# Altium schematic symbol library FPGA_Automotibe_Radar_Lib.SchLib: 52 symbols
Pins are listed as number, name and electrical type; pins without a type are passive.

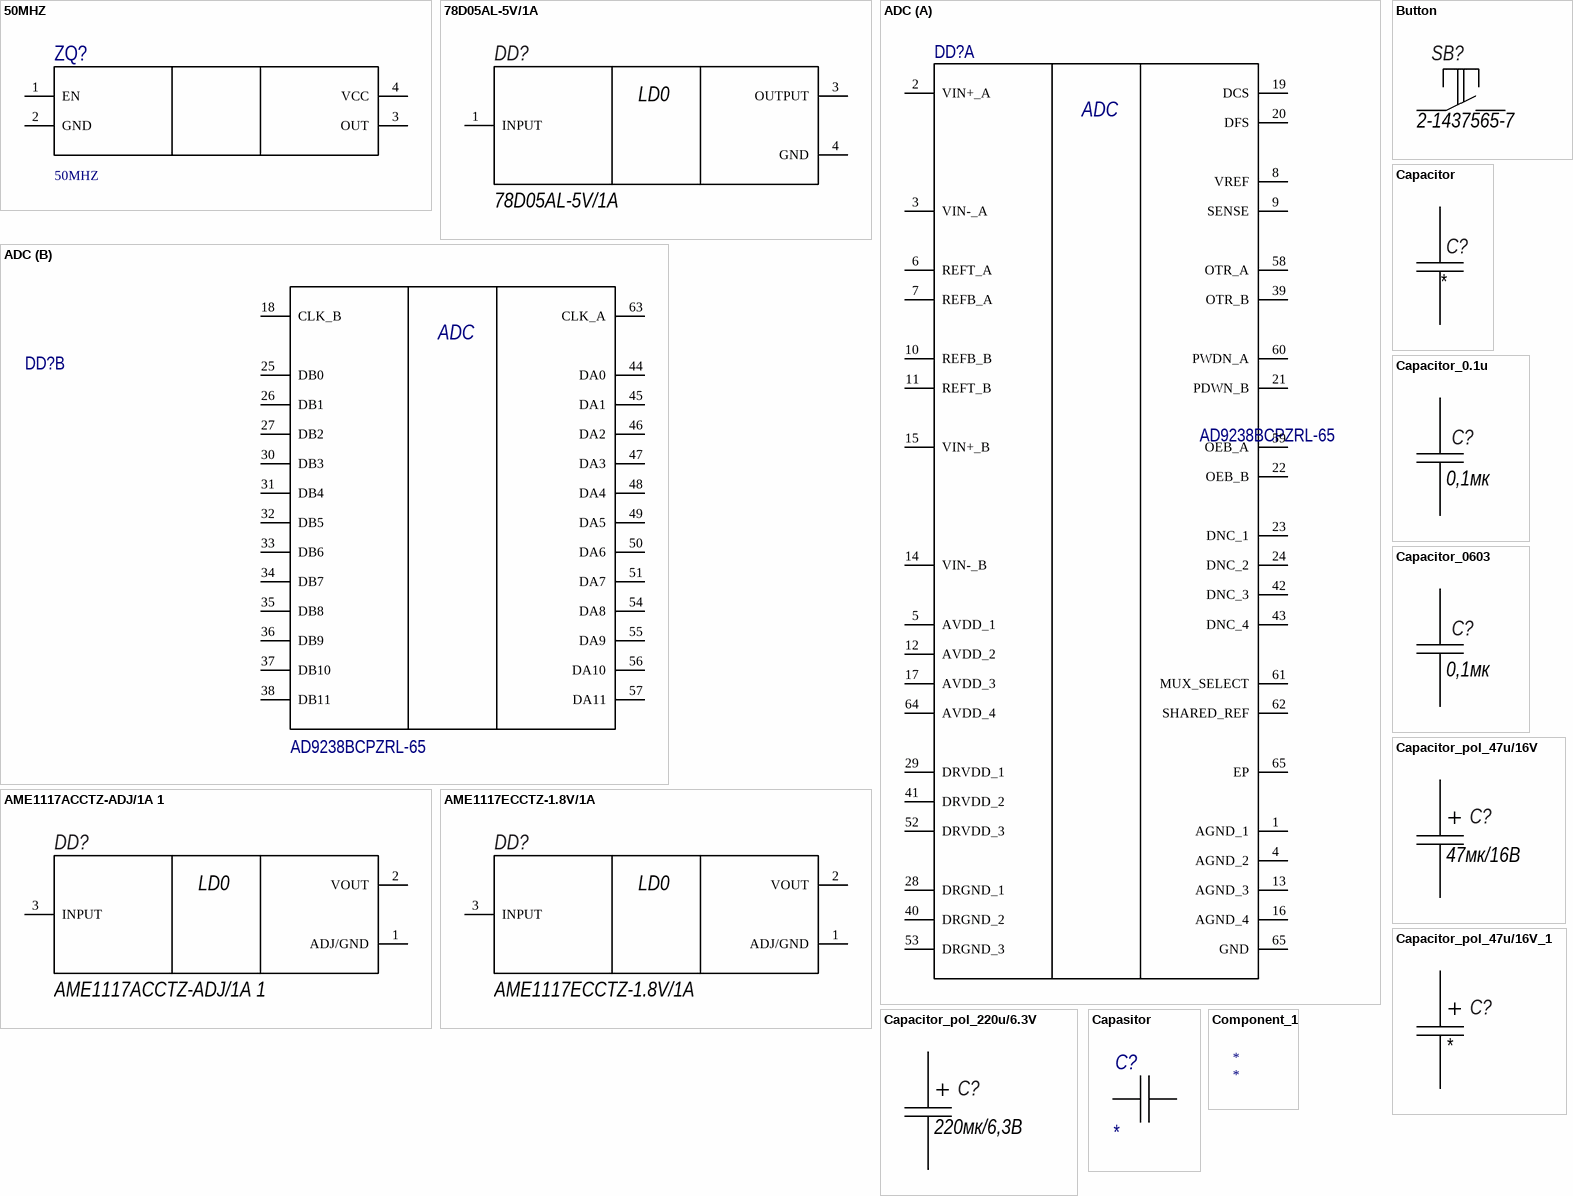
[diagram p0: symbols 50MHZ to Component_1]

## 50MHZ
designator ZQ?
pins: 1 EN, 2 GND, 3 OUT, 4 VCC

## 78D05AL-5V/1A
designator DD?
footprint BD750L5FPCE2
pins: 1 INPUT, 3 OUTPUT, 4 GND
1 alternate drawing of the same symbol
text: LD0

## ADC
designator DD?, comment AD9238BCPZRL-65
footprint QFN50P900X900X80-65N-D
part A pins: 1 AGND_1, 2 VIN+_A, 3 VIN-_A, 4 AGND_2, 5 AVDD_1, 6 REFT_A, 7 REFB_A, 8 VREF, 9 SENSE, 10 REFB_B, 11 REFT_B, 12 AVDD_2, 13 AGND_3, 14 VIN-_B, 15 VIN+_B, 16 AGND_4, 17 AVDD_3, 19 DCS, 20 DFS, 21 PDWN_B, 22 OEB_B, 23 DNC_1, 24 DNC_2, 28 DRGND_1, 29 DRVDD_1, 39 OTR_B, 40 DRGND_2, 41 DRVDD_2, 42 DNC_3, 43 DNC_4, 52 DRVDD_3, 53 DRGND_3, 58 OTR_A, 59 OEB_A, 60 PWDN_A, 61 MUX_SELECT, 62 SHARED_REF, 64 AVDD_4, 65 EP, 65 GND
part B pins: 18 CLK_B, 25 DB0, 26 DB1, 27 DB2, 30 DB3, 31 DB4, 32 DB5, 33 DB6, 34 DB7, 35 DB8, 36 DB9, 37 DB10, 38 DB11, 44 DA0, 45 DA1, 46 DA2, 47 DA3, 48 DA4, 49 DA5, 50 DA6, 51 DA7, 54 DA8, 55 DA9, 56 DA10, 57 DA11, 63 CLK_A

## AME1117ACCTZ-ADJ/1A 1
designator DD?
footprint SOT230P700X180-4N
pins: 1 ADJ/GND, 2 VOUT, 3 INPUT
1 alternate drawing of the same symbol
text: LD0

## AME1117ECCTZ-1.8V/1A
designator DD?
footprint SOT230P700X180-4N
pins: 1 ADJ/GND, 2 VOUT, 3 INPUT
1 alternate drawing of the same symbol
text: LD0

## Button
designator SB?, comment 2-1437565-7
ValueManufacturer: Te Connectivity; ValueType: Кнопка тактовая; Value: *; URL: *; Temp: *; Case: *; ValueManufacturerPartNumber: 2-1437565-7; ValueDescription: *
footprint ПТМ Tact
pins: 1, 2

## Capacitor
designator C?
ValueType: Конденсатор; Value: *; Tolerance: *; URL: *; Temp: *; Case: *; ValueManufacturer: *; ValueManufacturerPartNumber: *; ValueDescription: *; Dielectric: *; ESR: *; Voltage: *
footprint ECPU1C154MA5
pins: 1, 2

## Capacitor_0.1u
designator C?, comment 0,1мк
ValueType: Конденсатор; Value: 0,1мк; Tolerance: *; URL: *; Temp: *; Case: *; ValueManufacturer: *; ValueManufacturerPartNumber: *; ValueDescription: *; Dielectric: *; ESR: *; Voltage: *
footprint RESC1005X35N
pins: 1, 2

## Capacitor_0603
designator C?, comment 0,1мк
ValueType: Конденсатор; Value: 0,1мк; Tolerance: *; URL: *; Temp: *; Case: *; ValueManufacturer: *; ValueManufacturerPartNumber: *; ValueDescription: *; Dielectric: *; ESR: *; Voltage: *
footprint 0603
pins: 1, 2

## Capacitor_pol_47u/16V
designator C?, comment 47мк/16B
ValueType: Конденсатор; Value: 47мк/16B; Tolerance: *; URL: *; Temp: *; Case: *; ValueManufacturer: *; ValueManufacturerPartNumber: *; ValueDescription: *; Dielectric: *; ESR: *; Voltage: *
footprint CAPAE530X610N
pins: 1, 2

## Capacitor_pol_47u/16V_1
designator C?
ValueType: Конденсатор; Value: *; Tolerance: *; URL: *; Temp: *; Case: *; ValueManufacturer: *; ValueManufacturerPartNumber: *; ValueDescription: *; Dielectric: *; ESR: *; Voltage: *
footprint CAPAE530X610N
pins: 1, 2

## Capacitor_pol_220u/6.3V
designator C?, comment 220мк/6,3В
ValueType: Конденсатор; Value: 220мк/6,3В; Tolerance: *; URL: *; Temp: *; Case: *; ValueManufacturer: *; ValueManufacturerPartNumber: *; ValueDescription: *; Dielectric: *; ESR: *; Voltage: *
footprint CAPAE530X610N
pins: 1, 2

## Capasitor
designator C?
Value: *; Tolerance: *; Case: *; ValueType: *; ValueDescription: *
footprint ECPU1C154MA5
pins: 1, 2

## Component_1
designator *

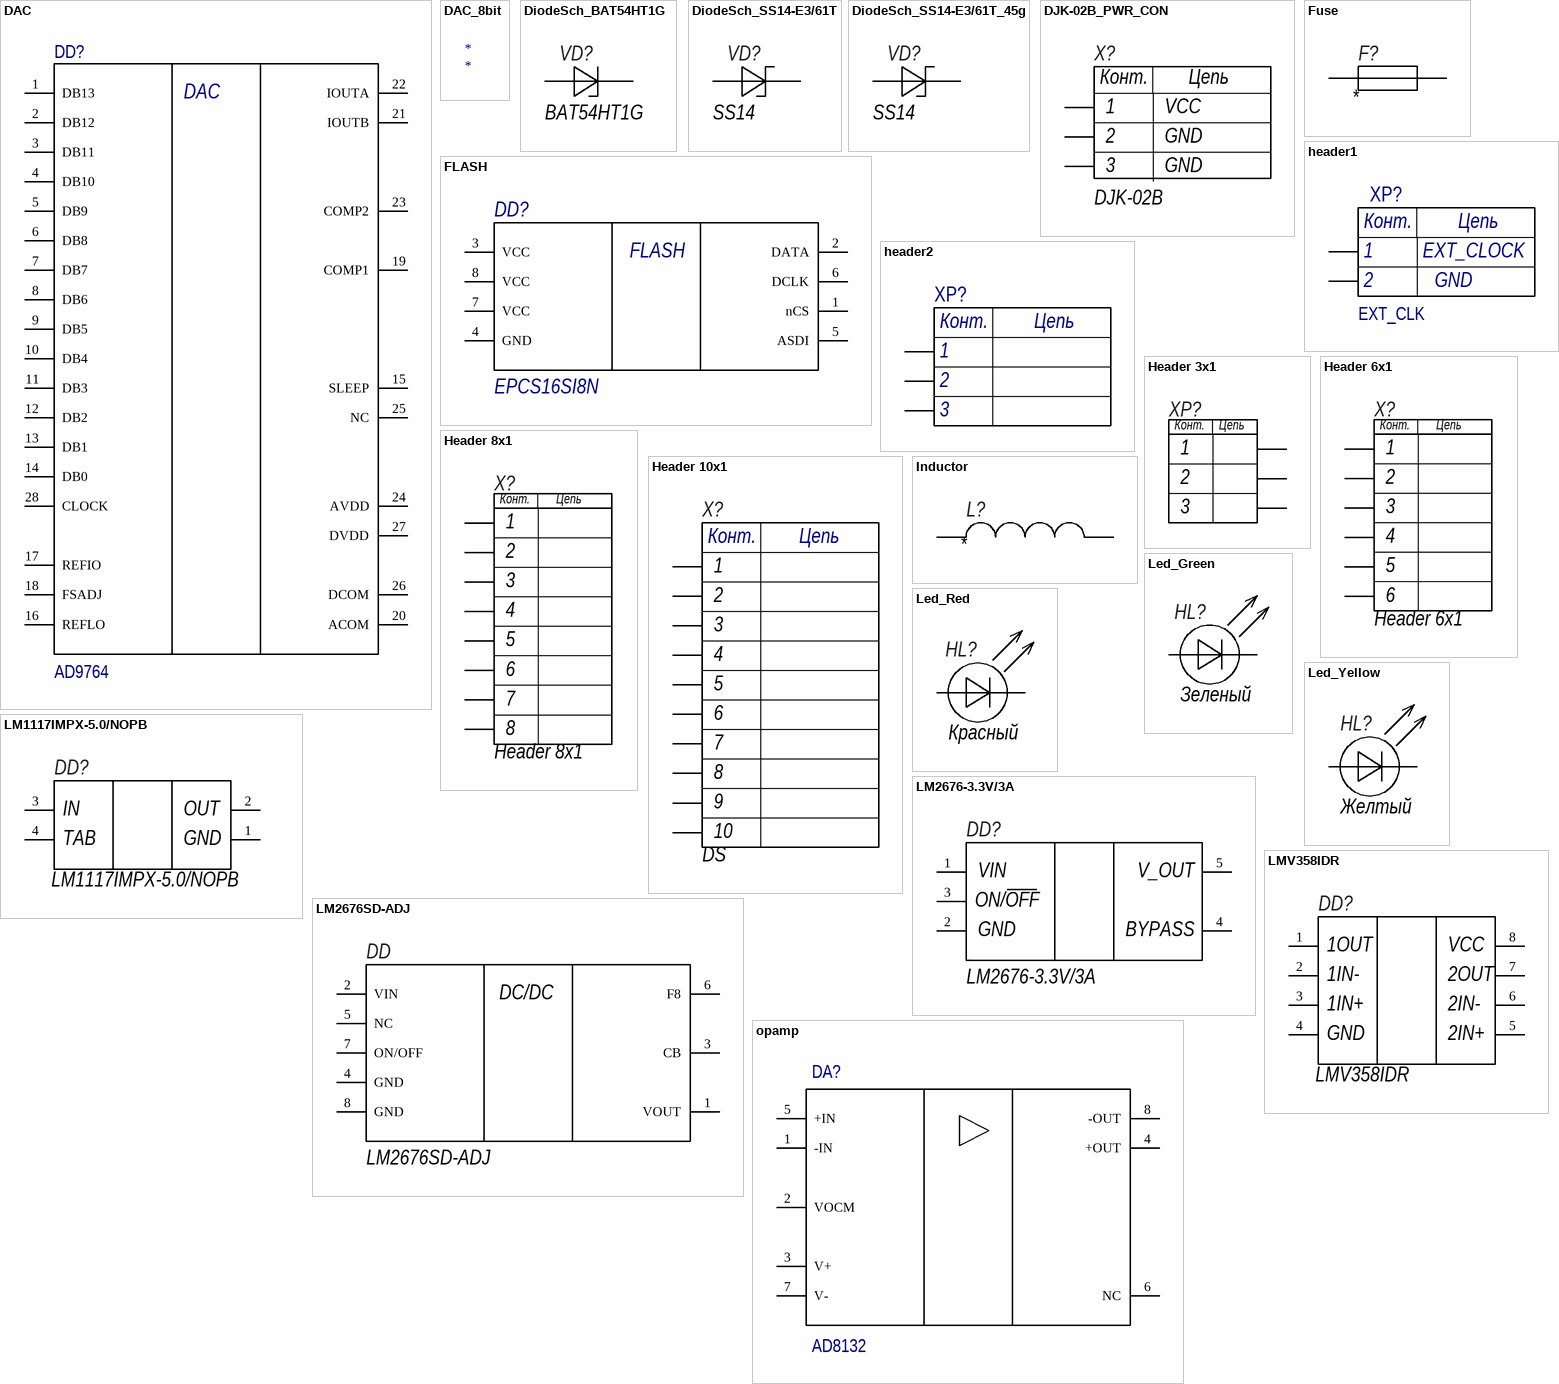
[diagram p1: symbols DAC to opamp]

## DAC
designator DD?, comment AD9764
footprint SOP65P640X120-28N
pins: 1 DB13, 2 DB12, 3 DB11, 4 DB10, 5 DB9, 6 DB8, 7 DB7, 8 DB6, 9 DB5, 10 DB4, 11 DB3, 12 DB2, 13 DB1, 14 DB0, 15 SLEEP, 16 REFLO, 17 REFIO, 18 FSADJ, 19 COMP1, 20 ACOM, 21 IOUTB, 22 IOUTA, 23 COMP2, 24 AVDD, 25 NC, 26 DCOM, 27 DVDD, 28 CLOCK

## DAC_8bit
designator *

## DiodeSch_BAT54HT1G
designator VD?, comment BAT54HT1G
ValueManufacturer: On Semiconductor; ValueManufacturerPartNumber: SS14-E3/61T; Temp: -55...+150; ValueType: Диод Шоттки; URL: *; Case: SOD-323; ValueDescription: Диод Шоттки; Value: *
footprint ПТМ DiodeSch_BAT54HT1G: SOD-323
pins: A 1, K 2

## DiodeSch_SS14-E3/61T
designator VD?, comment SS14
ValueManufacturer: Vishay; ValueManufacturerPartNumber: SS14-E3/61T; ValueType: Диод Шоттки; URL: *; Temp: *; Case: DO-214AC(SMA); ValueDescription: Диод Шоттки; Value: *
footprint DIOM5026X262N
pins: 1 2, 2

## DiodeSch_SS14-E3/61T_45g
designator VD?, comment SS14
ValueManufacturer: Vishay; ValueManufacturerPartNumber: SS14-E3/61T; ValueType: Диод Шоттки; URL: *; Temp: *; Case: DO-214AC(SMA); ValueDescription: Диод Шоттки; Value: *
footprint DIOM5026X262N
pins: 1 2, A 2

## DJK-02B_PWR_CON
designator X?, comment DJK-02B
ValueManufacturer: KLS; ValueType: Разъем питания; ValueManufacturerPartNumber: DJK-02B; ValueDescription: DJK-02B
footprint DJK-02B
pins: 1, 2, 3
text: Конт.; Цепь; VCC; GND

## FLASH
designator DD?, comment EPCS16SI8N
footprint SOIC127P600X175-8N
pins: 1 nCS, 2 DATA, 3 VCC, 4 GND, 5 ASDI, 6 DCLK, 7 VCC, 8 VCC

## Fuse
designator F?
ValueType: Предохранитель; URL: *; Temp: *; Case: *; ValueManufacturer: *; ValueManufacturerPartNumber: *; ValueDescription: *
footprint ПТМ: MF-MSMF200
pins: 1, 2

## header1
designator XP?, comment EXT_CLK
text: Конт.; Цепь; 1; EXT_CLOCK; 2; GND

## header2
designator XP?  (value not drawn)
footprint Header_2_phoenix
pins: 1, 2, GND
text: Конт.; Цепь; 3

## Header 3x1
designator XP?  (value not drawn)
footprint HDR2X3
pins: 1, 2, 3
text: Конт.; Цепь

## Header 6x1
designator X?
ValueType: Разъем; Case: PBS-6
footprint PBS-6
pins: 1, 2, 3, 4, 5, 6
text: Конт.; Цепь

## Header 8x1
designator X?
ValueType: Разъем; Case: PBS-8
footprint PBS-8
pins: 1, 2, 3, 4, 5, 6, 7, 8
text: Конт.; Цепь

## Header 10x1
designator X?, comment DS
ValueType: Разъем; Case: PBS-10
footprint PBS-10
pins: 1, 2, 3, 4, 5, 6, 7, 8, 9, 10
text: Конт.; Цепь

## Inductor
designator L?
ValueType: Индуктивность; Value: *; Tolerance: *; ValueManufacturer: *; ValueManufacturerPartNumber: *; ValueDescription: *
footprint RESC1005X35N
pins: 1, 2

## Led_Green
designator HL?, comment Зеленый
ValueManufacturer: Foryad; ValueManufacturerPartNumber: fyls-0603urc; Temp: -40...+85; ValueType: Светодиод; URL: *; Case: 0603; ValueDescription: Светодиод; Value: Зеленый
footprint ПТМ 0603_LED_Green
pins: A 1, K 2

## Led_Red
designator HL?, comment Красный
ValueManufacturer: Foryad; ValueManufacturerPartNumber: fyls-0603urc; Temp: -40...+85; ValueType: Светодиод; URL: *; Case: 0603; ValueDescription: Светодиод; Value: Красный
footprint ПТМ 0603_LED_RED
pins: A 1, K 2

## Led_Yellow
designator HL?, comment Желтый
ValueManufacturer: Foryad; ValueManufacturerPartNumber: fyls-0603urc; Temp: -40...+85; ValueType: Светодиод; URL: *; Case: 0603; ValueDescription: Светодиод; Value: Желтый
footprint ПТМ 0603_LED_Yellow
pins: A 1, K 2

## LM1117IMPX-5.0/NOPB
designator DD?
ValueManufacturer: Texas Instruments; ValueType: Линейный стабилизатор; Case: SOT-223; ValueManufacturerPartNumber: LM1117IMPX-5.0
footprint SOЕ223-4
pins: 1, 2, 3, 4
text: IN; OUT; TAB; GND

## LM2676-3.3V/3A
designator DD?
ValueManufacturer: Texas Instruments; ValueManufacturerPartNumber: LP2985-33DBVR; ValueType: Линейный стабилизатор напряжения; Case: SOT23-5
footprint ПТМ LP2985-33DBVR
pins: 1, 2, 3, 4, 5
text: VIN; V_OUT; ON/OFF; GND; BYPASS

## LM2676SD-ADJ
designator DD
footprint DFN500X600X100-15N
pins: 1 VOUT, 2 VIN, 3 CB, 4 GND, 5 NC, 6 F8, 7 ON/OFF, 8 GND
1 alternate drawing of the same symbol
text: DC/DC

## LMV358IDR
designator DD?
ValueManufacturer: Texas Instruments; ValueType: Операционный усилитель; Case: SOIC-8; ValueManufacturerPartNumber: LMV358IDR
footprint SOP8
pins: 1, 2, 3, 4, 5, 6, 7, 8
1 alternate drawing of the same symbol
text: 1OUT; VCC; 1IN-; 2OUT; 1IN+; 2IN-; GND; 2IN+

## opamp
designator DA?, comment AD8132
footprint SOP65P490X110-8N
pins: 1 -IN, 2 VOCM, 3 V+, 4 +OUT, 5 +IN, 6 NC, 7 V-, 8 -OUT

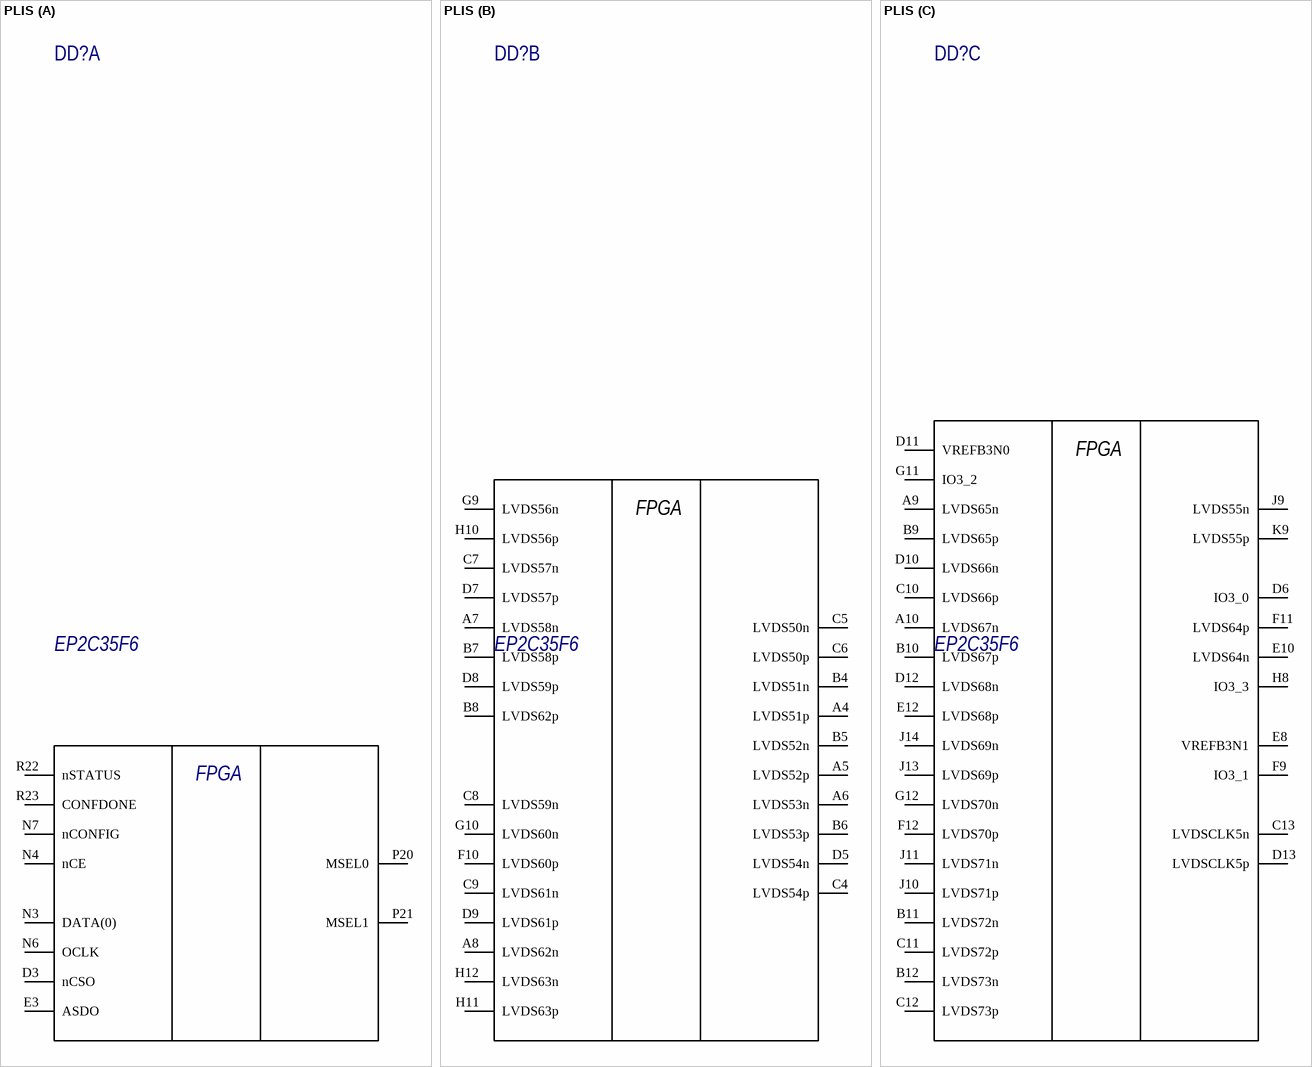
[diagram p2: symbol PLIS]

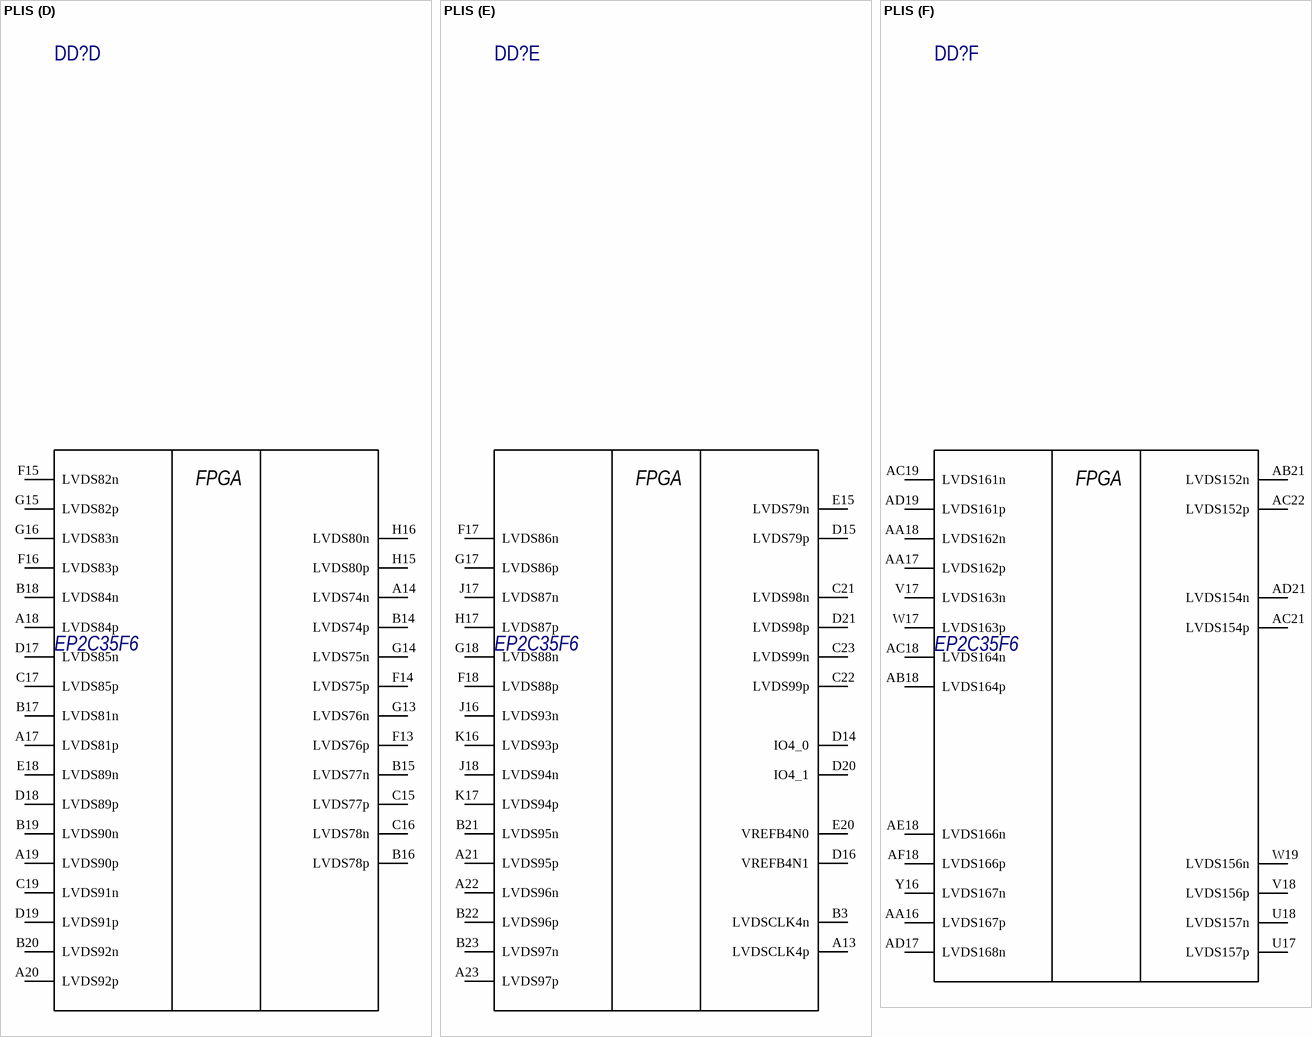
[diagram p3: symbol PLIS]

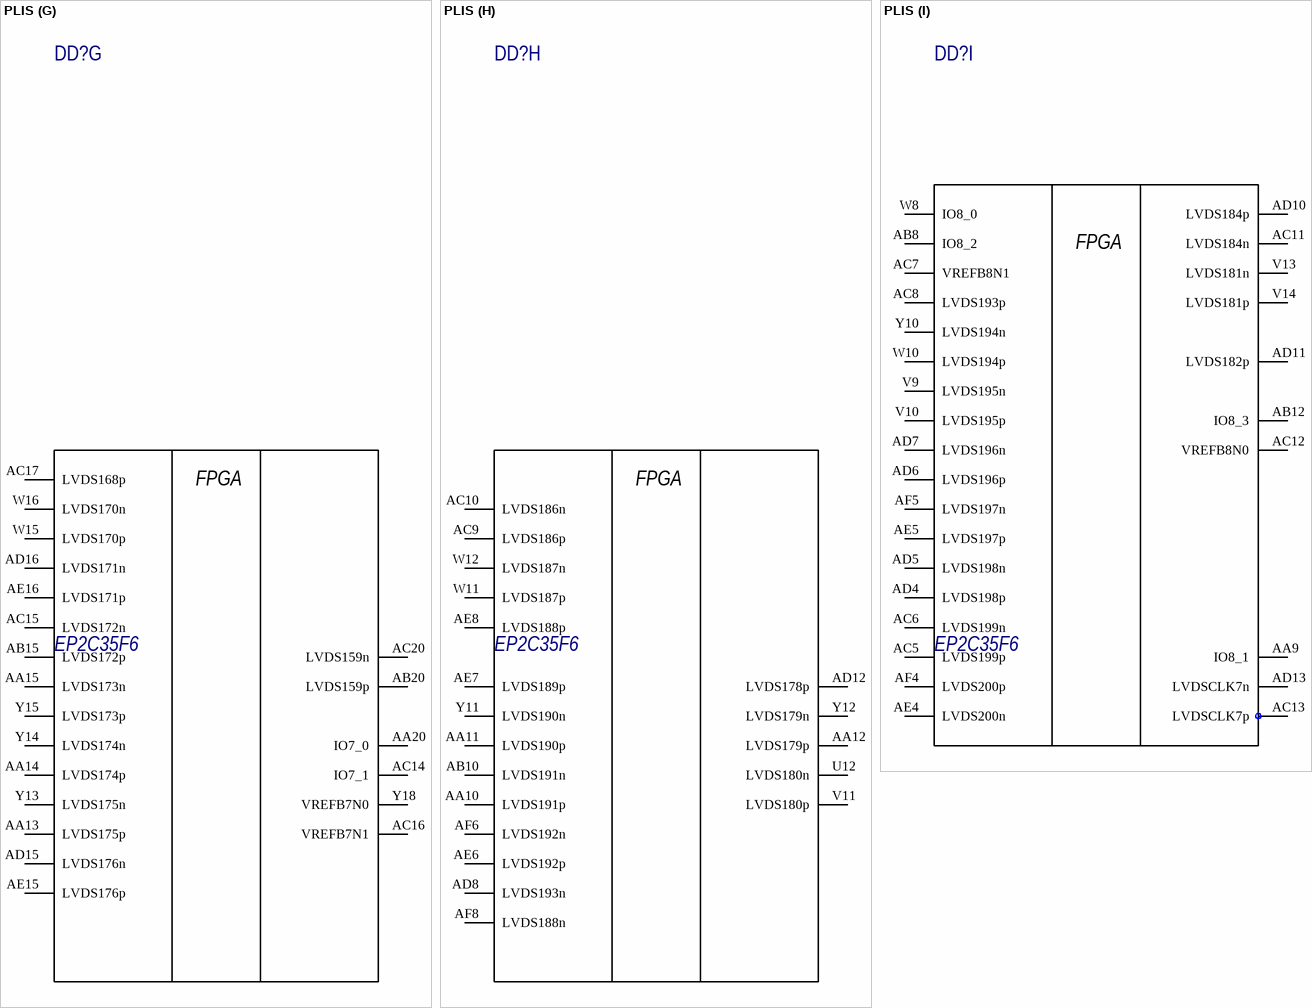
[diagram p4: symbol PLIS]

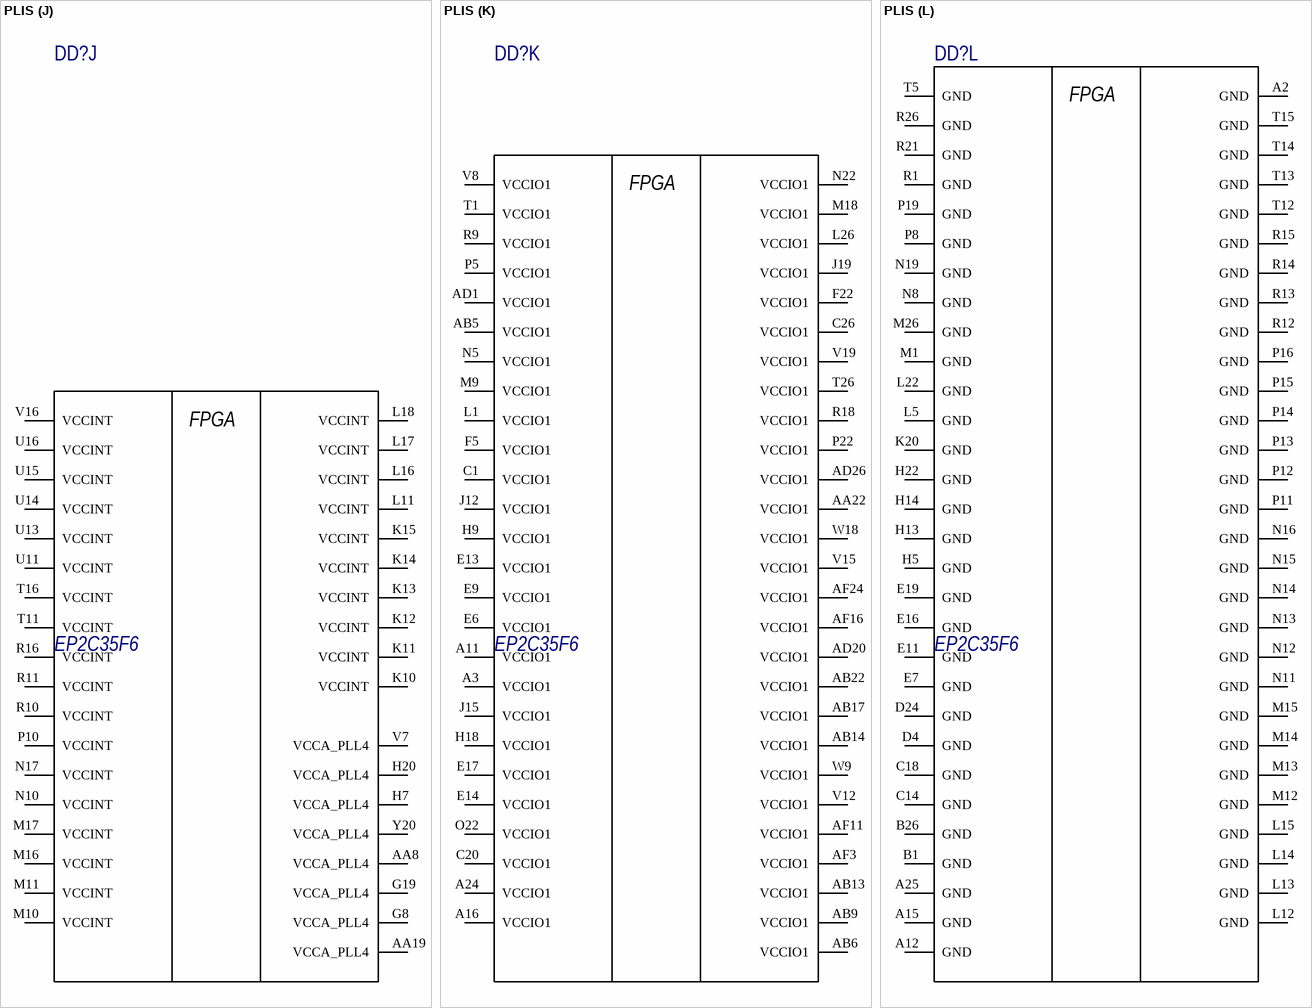
[diagram p5: symbol PLIS]

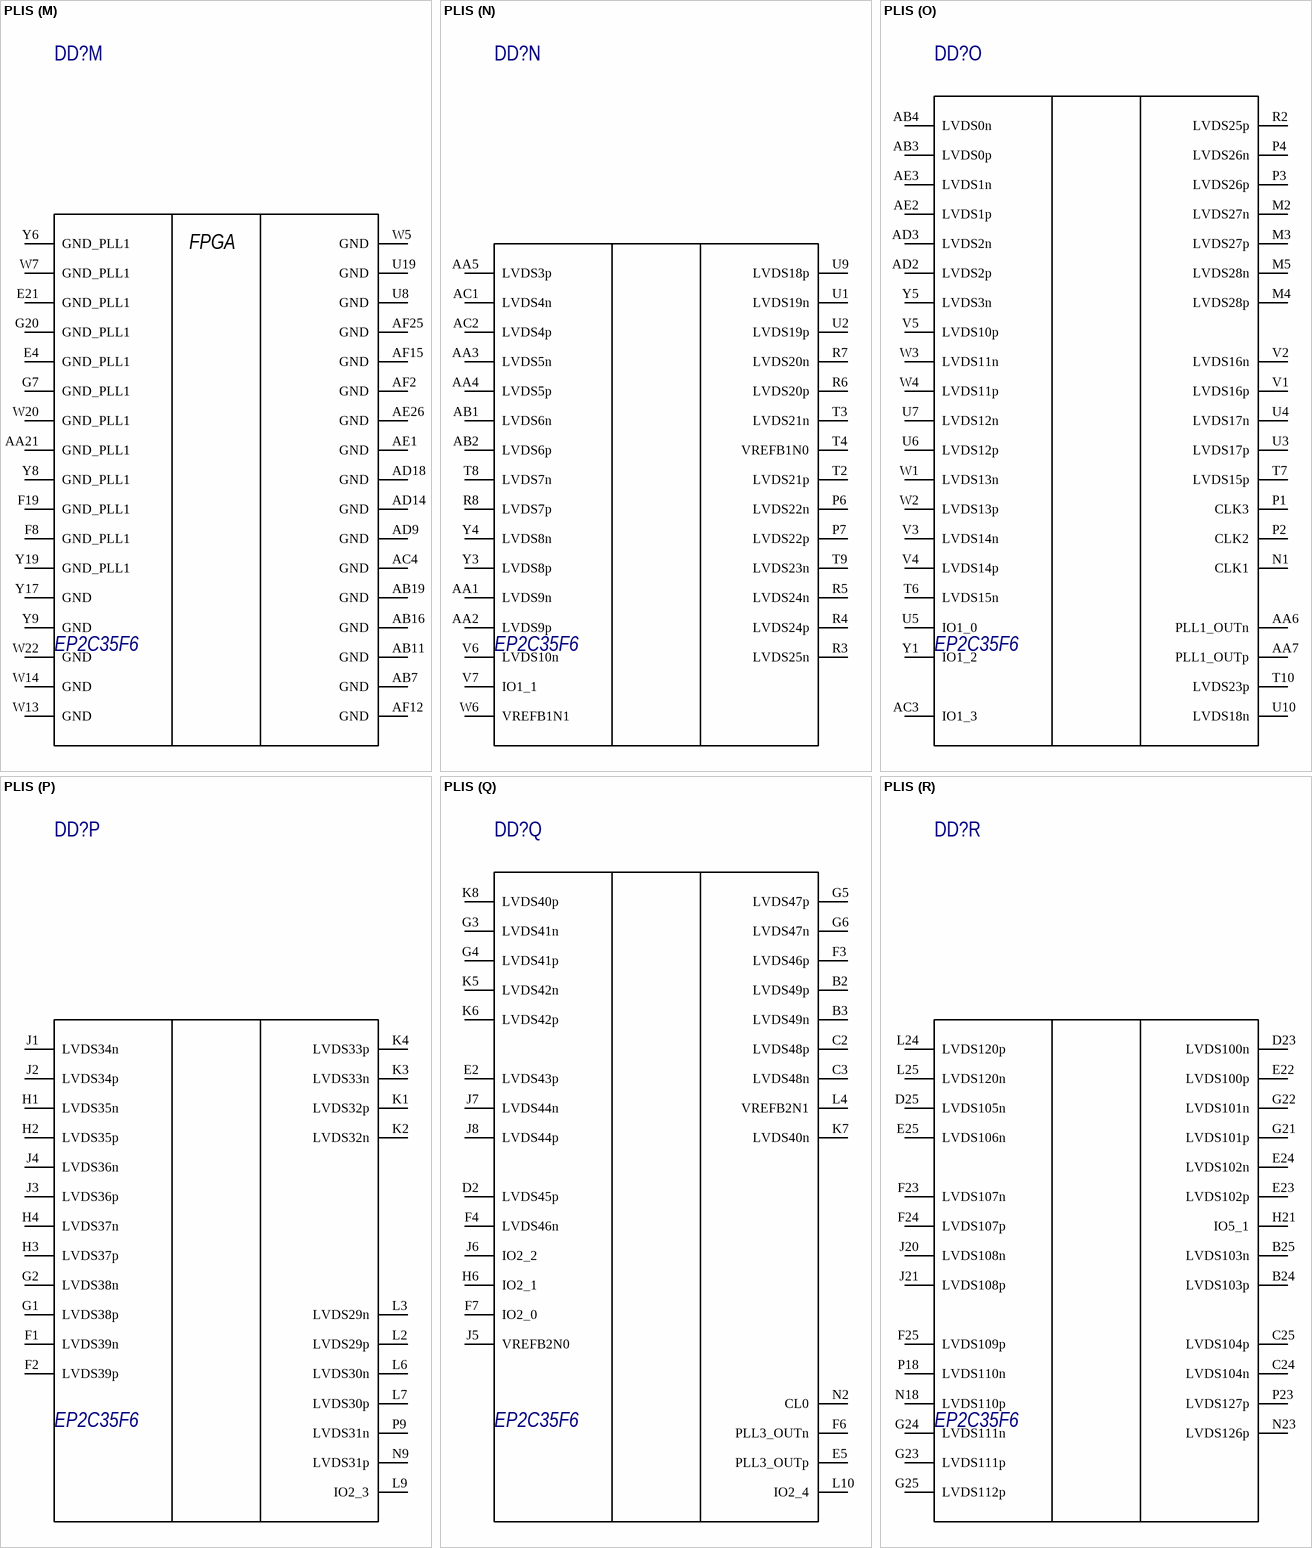
[diagram p6: symbol PLIS]

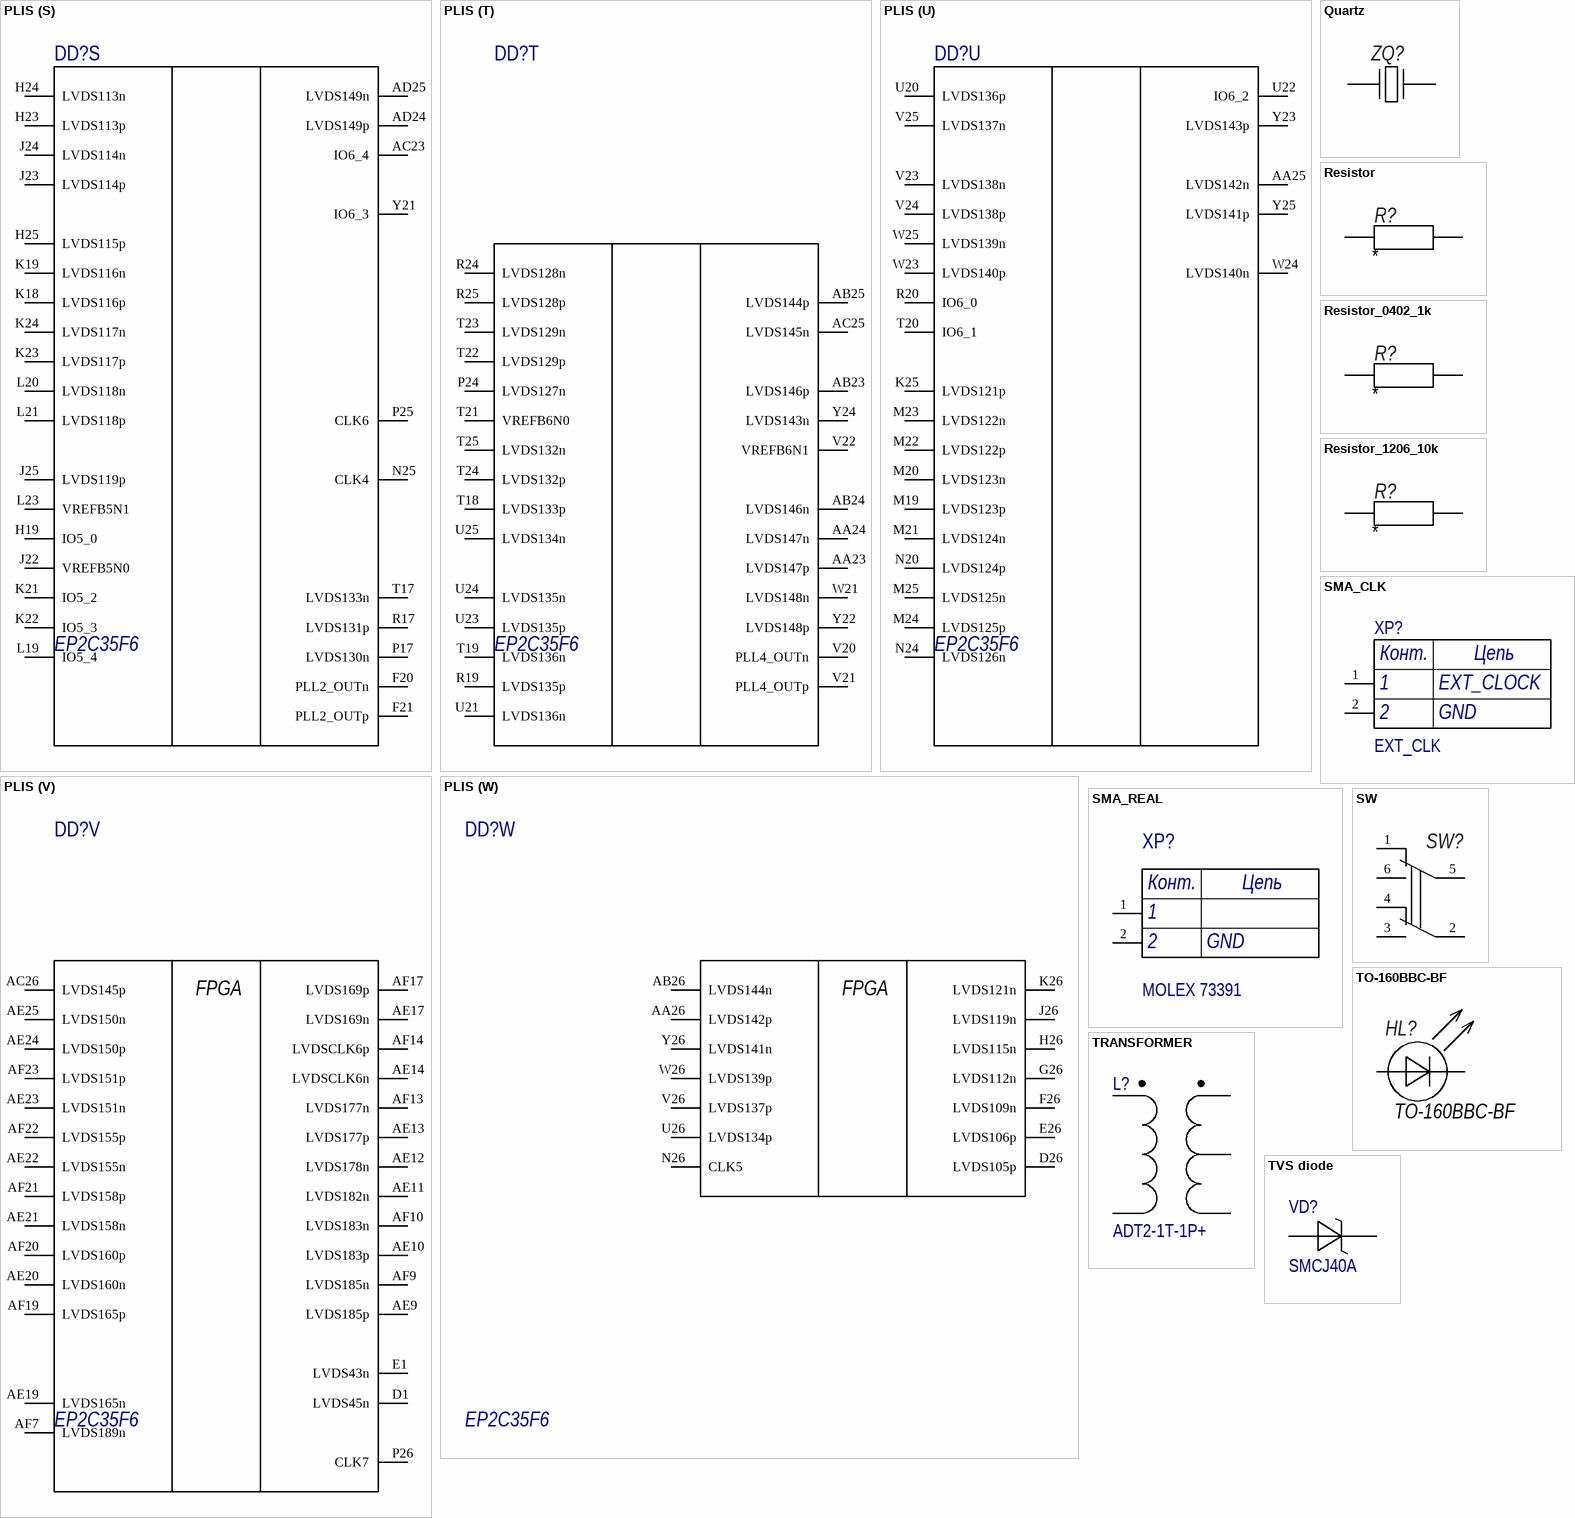
[diagram p7: symbols PLIS to TVS diode]

## PLIS
designator DD?, comment EP2C35F6
footprint BGA672CP100_26X26_2700X2700X240B60N
part A pins: D3 nCSO, E3 ASDO, N3 DATA(0), N4 nCE, N6 OCLK, N7 nCONFIG, P20 MSEL0, P21 MSEL1, R22 nSTATUS, R23 CONFDONE
part B pins: A4 LVDS51p, A5 LVDS52p, A6 LVDS53n, A7 LVDS58n, A8 LVDS62n, B4 LVDS51n, B5 LVDS52n, B6 LVDS53p, B7 LVDS58p, B8 LVDS62p, C4 LVDS54p, C5 LVDS50n, C6 LVDS50p, C7 LVDS57n, C8 LVDS59n, C9 LVDS61n, D5 LVDS54n, D7 LVDS57p, D8 LVDS59p, D9 LVDS61p, F10 LVDS60p, G9 LVDS56n, G10 LVDS60n, H10 LVDS56p, H11 LVDS63p, H12 LVDS63n
part C pins: A9 LVDS65n, A10 LVDS67n, B9 LVDS65p, B10 LVDS67p, B11 LVDS72n, B12 LVDS73n, C10 LVDS66p, C11 LVDS72p, C12 LVDS73p, C13 LVDSCLK5n, D6 IO3_0, D10 LVDS66n, D11 VREFB3N0, D12 LVDS68n, D13 LVDSCLK5p, E8 VREFB3N1, E10 LVDS64n, E12 LVDS68p, F9 IO3_1, F11 LVDS64p, F12 LVDS70p, G11 IO3_2, G12 LVDS70n, H8 IO3_3, J9 LVDS55n, J10 LVDS71p, J11 LVDS71n, J13 LVDS69p, J14 LVDS69n, K9 LVDS55p
part D pins: A14 LVDS74n, A17 LVDS81p, A18 LVDS84p, A19 LVDS90p, A20 LVDS92p, B14 LVDS74p, B15 LVDS77n, B16 LVDS78p, B17 LVDS81n, B18 LVDS84n, B19 LVDS90n, B20 LVDS92n, C16 LVDS78n, C17 LVDS85p, C19 LVDS91n, D17 LVDS85n, D18 LVDS89p, D19 LVDS91p, E18 LVDS89n, F13 LVDS76p, F14 LVDS75p, F15 LVDS82n, F16 LVDS83p, G13 LVDS76n, G14 LVDS75n, G15 LVDS82p, G16 LVDS83n, H15 LVDS80p, H16 LVDS80n, С15 LVDS77p
part E pins: A13 LVDSCLK4p, A21 LVDS95p, A22 LVDS96n, A23 LVDS97p, B3 LVDSCLK4n, B21 LVDS95n, B22 LVDS96p, B23 LVDS97n, C21 LVDS98n, C22 LVDS99p, C23 LVDS99n, D14 IO4_0, D15 LVDS79p, D16 VREFB4N1, D20 IO4_1, D21 LVDS98p, E15 LVDS79n, E20 VREFB4N0, F17 LVDS86n, F18 LVDS88p, G17 LVDS86p, G18 LVDS88n, H17 LVDS87p, J16 LVDS93n, J17 LVDS87n, J18 LVDS94n, K16 LVDS93p, K17 LVDS94p
part F pins: AA16 LVDS167p, AA17 LVDS162p, AA18 LVDS162n, AB18 LVDS164p, AB21 LVDS152n, AC18 LVDS164n, AC19 LVDS161n, AC21 LVDS154p, AC22 LVDS152p, AD17 LVDS168n, AD19 LVDS161p, AD21 LVDS154n, AE18 LVDS166n, AF18 LVDS166p, U17 LVDS157p, U18 LVDS157n, V17 LVDS163n, V18 LVDS156p, W17 LVDS163p, W19 LVDS156n, Y16 LVDS167n
part G pins: AA13 LVDS175p, AA14 LVDS174p, AA15 LVDS173n, AA20 IO7_0, AB15 LVDS172p, AB20 LVDS159p, AC14 IO7_1, AC15 LVDS172n, AC16 VREFB7N1, AC17 LVDS168p, AC20 LVDS159n, AD15 LVDS176n, AD16 LVDS171n, AE15 LVDS176p, AE16 LVDS171p, W15 LVDS170p, W16 LVDS170n, Y13 LVDS175n, Y14 LVDS174n, Y15 LVDS173p, Y18 VREFB7N0
part H pins: AA10 LVDS191p, AA11 LVDS190p, AA12 LVDS179p, AB10 LVDS191n, AC9 LVDS186p, AC10 LVDS186n, AD8 LVDS193n, AD12 LVDS178p, AE6 LVDS192p, AE7 LVDS189p, AE8 LVDS188p, AF6 LVDS192n, AF8 LVDS188n, U12 LVDS180n, V11 LVDS180p, W11 LVDS187p, W12 LVDS187n, Y11 LVDS190n, Y12 LVDS179n
part I pins: AA9 IO8_1, AB8 IO8_2, AB12 IO8_3, AC5 LVDS199p, AC6 LVDS199n, AC7 VREFB8N1, AC8 LVDS193p, AC11 LVDS184n, AC12 VREFB8N0, AC13 LVDSCLK7p, AD4 LVDS198p, AD5 LVDS198n, AD6 LVDS196p, AD7 LVDS196n, AD10 LVDS184p, AD11 LVDS182p, AD13 LVDSCLK7n, AE4 LVDS200n, AE5 LVDS197p, AF4 LVDS200p, AF5 LVDS197n, V9 LVDS195n, V10 LVDS195p, V13 LVDS181n, V14 LVDS181p, W8 IO8_0, W10 LVDS194p, Y10 LVDS194n
part J pins: AA8 VCCA_PLL4, AA19 VCCA_PLL4, G8 VCCA_PLL4, G19 VCCA_PLL4, H7 VCCA_PLL4, H20 VCCA_PLL4, K10 VCCINT, K11 VCCINT, K12 VCCINT, K13 VCCINT, K14 VCCINT, K15 VCCINT, L11 VCCINT, L16 VCCINT, L17 VCCINT, L18 VCCINT, M10 VCCINT, M11 VCCINT, M16 VCCINT, M17 VCCINT, N10 VCCINT, N17 VCCINT, P10 VCCINT, R10 VCCINT, R11 VCCINT, R16 VCCINT, T11 VCCINT, T16 VCCINT, U11 VCCINT, U13 VCCINT, U14 VCCINT, U15 VCCINT, U16 VCCINT, V7 VCCA_PLL4, V16 VCCINT, Y20 VCCA_PLL4
part K pins: A3 VCCIO1, A11 VCCIO1, A16 VCCIO1, A24 VCCIO1, AA22 VCCIO1, AB5 VCCIO1, AB6 VCCIO1, AB9 VCCIO1, AB13 VCCIO1, AB14 VCCIO1, AB17 VCCIO1, AB22 VCCIO1, AD1 VCCIO1, AD20 VCCIO1, AD26 VCCIO1, AF3 VCCIO1, AF11 VCCIO1, AF16 VCCIO1, AF24 VCCIO1, C1 VCCIO1, C20 VCCIO1, C26 VCCIO1, E6 VCCIO1, E9 VCCIO1, E13 VCCIO1, E14 VCCIO1, E17 VCCIO1, F5 VCCIO1, F22 VCCIO1, H9 VCCIO1, H18 VCCIO1, J12 VCCIO1, J15 VCCIO1, J19 VCCIO1, L1 VCCIO1, L26 VCCIO1, M9 VCCIO1, M18 VCCIO1, N5 VCCIO1, N22 VCCIO1, O22 VCCIO1, P5 VCCIO1, P22 VCCIO1, R9 VCCIO1, R18 VCCIO1, T1 VCCIO1, T26 VCCIO1, V8 VCCIO1, V12 VCCIO1, V15 VCCIO1, V19 VCCIO1, W9 VCCIO1, W18 VCCIO1
part L pins: A2 GND, A12 GND, A15 GND, A25 GND, B1 GND, B26 GND, C14 GND, C18 GND, D4 GND, D24 GND, E7 GND, E11 GND, E16 GND, E19 GND, H5 GND, H13 GND, H14 GND, H22 GND, K20 GND, L5 GND, L12 GND, L13 GND, L14 GND, L15 GND, L22 GND, M1 GND, M12 GND, M13 GND, M14 GND, M15 GND, M26 GND, N8 GND, N11 GND, N12 GND, N13 GND, N14 GND, N15 GND, N16 GND, N19 GND, P8 GND, P11 GND, P12 GND, P13 GND, P14 GND, P15 GND, P16 GND, P19 GND, R1 GND, R12 GND, R13 GND, R14 GND, R15 GND, R21 GND, R26 GND, T5 GND, T12 GND, T13 GND, T14 GND, T15 GND
part M pins: AA21 GND_PLL1, AB7 GND, AB11 GND, AB16 GND, AB19 GND, AC4 GND, AD9 GND, AD14 GND, AD18 GND, AE1 GND, AE26 GND, AF2 GND, AF12 GND, AF15 GND, AF25 GND, E4 GND_PLL1, E21 GND_PLL1, F8 GND_PLL1, F19 GND_PLL1, G7 GND_PLL1, G20 GND_PLL1, U8 GND, U19 GND, W5 GND, W7 GND_PLL1, W13 GND, W14 GND, W20 GND_PLL1, W22 GND, Y6 GND_PLL1, Y8 GND_PLL1, Y9 GND, Y17 GND, Y19 GND_PLL1
part N pins: AA1 LVDS9n, AA2 LVDS9p, AA3 LVDS5n, AA4 LVDS5p, AA5 LVDS3p, AB1 LVDS6n, AB2 LVDS6p, AC1 LVDS4n, AC2 LVDS4p, P6 LVDS22n, P7 LVDS22p, R3 LVDS25n, R4 LVDS24p, R5 LVDS24n, R6 LVDS20p, R7 LVDS20n, R8 LVDS7p, T2 LVDS21p, T3 LVDS21n, T4 VREFB1N0, T8 LVDS7n, T9 LVDS23n, U1 LVDS19n, U2 LVDS19p, U9 LVDS18p, V6 LVDS10n, V7 IO1_1, W6 VREFB1N1, Y3 LVDS8p, Y4 LVDS8n
part O pins: AA6 PLL1_OUTn, AA7 PLL1_OUTp, AB3 LVDS0p, AB4 LVDS0n, AC3 IO1_3, AD2 LVDS2p, AD3 LVDS2n, AE2 LVDS1p, AE3 LVDS1n, M2 LVDS27n, M3 LVDS27p, M4 LVDS28p, M5 LVDS28n, N1 CLK1, P1 CLK3, P2 CLK2, P3 LVDS26p, P4 LVDS26n, R2 LVDS25p, T6 LVDS15n, T7 LVDS15p, T10 LVDS23p, U3 LVDS17p, U4 LVDS17n, U5 IO1_0, U6 LVDS12p, U7 LVDS12n, U10 LVDS18n, V1 LVDS16p, V2 LVDS16n, V3 LVDS14n, V4 LVDS14p, V5 LVDS10p, W1 LVDS13n, W2 LVDS13p, W3 LVDS11n, W4 LVDS11p, Y1 IO1_2, Y5 LVDS3n
part P pins: F1 LVDS39n, F2 LVDS39p, G1 LVDS38p, G2 LVDS38n, H1 LVDS35n, H2 LVDS35p, H3 LVDS37p, H4 LVDS37n, J1 LVDS34n, J2 LVDS34p, J3 LVDS36p, J4 LVDS36n, K1 LVDS32p, K2 LVDS32n, K3 LVDS33n, K4 LVDS33p, L2 LVDS29p, L3 LVDS29n, L6 LVDS30n, L7 LVDS30p, L9 IO2_3, N9 LVDS31p, P9 LVDS31n
part Q pins: B2 LVDS49p, B3 LVDS49n, C2 LVDS48p, C3 LVDS48n, D2 LVDS45p, E2 LVDS43p, E5 PLL3_OUTp, F3 LVDS46p, F4 LVDS46n, F6 PLL3_OUTn, F7 IO2_0, G3 LVDS41n, G4 LVDS41p, G5 LVDS47p, G6 LVDS47n, H6 IO2_1, J5 VREFB2N0, J6 IO2_2, J7 LVDS44n, J8 LVDS44p, K5 LVDS42n, K6 LVDS42p, K7 LVDS40n, K8 LVDS40p, L4 VREFB2N1, L10 IO2_4, N2 CL0
part R pins: B24 LVDS103p, B25 LVDS103n, C24 LVDS104n, C25 LVDS104p, D23 LVDS100n, D25 LVDS105n, E22 LVDS100p, E23 LVDS102p, E24 LVDS102n, E25 LVDS106n, F23 LVDS107n, F24 LVDS107p, F25 LVDS109p, G21 LVDS101p, G22 LVDS101n, G23 LVDS111p, G24 LVDS111n, G25 LVDS112p, H21 IO5_1, J20 LVDS108n, J21 LVDS108p, L24 LVDS120p, L25 LVDS120n, N18 LVDS110p, N23 LVDS126p, P18 LVDS110n, P23 LVDS127p
part S pins: AC23 IO6_4, AD24 LVDS149p, AD25 LVDS149n, F20 PLL2_OUTn, F21 PLL2_OUTp, H19 IO5_0, H23 LVDS113p, H24 LVDS113n, H25 LVDS115p, J22 VREFB5N0, J23 LVDS114p, J24 LVDS114n, J25 LVDS119p, K18 LVDS116p, K19 LVDS116n, K21 IO5_2, K22 IO5_3, K23 LVDS117p, K24 LVDS117n, L19 IO5_4, L20 LVDS118n, L21 LVDS118p, L23 VREFB5N1, N25 CLK4, P17 LVDS130n, P25 CLK6, R17 LVDS131p, T17 LVDS133n, Y21 IO6_3
part T pins: AA23 LVDS147p, AA24 LVDS147n, AB23 LVDS146p, AB24 LVDS146n, AB25 LVDS144p, AC25 LVDS145n, P24 LVDS127n, R19 LVDS135p, R24 LVDS128n, R25 LVDS128p, T18 LVDS133p, T19 LVDS136n, T21 VREFB6N0, T22 LVDS129p, T23 LVDS129n, T24 LVDS132p, T25 LVDS132n, U21 LVDS136n, U23 LVDS135p, U24 LVDS135n, U25 LVDS134n, V20 PLL4_OUTn, V21 PLL4_OUTp, V22 VREFB6N1, W21 LVDS148n, Y22 LVDS148p, Y24 LVDS143n
part U pins: AA25 LVDS142n, K25 LVDS121p, M19 LVDS123p, M20 LVDS123n, M21 LVDS124n, M22 LVDS122p, M23 LVDS122n, M24 LVDS125p, M25 LVDS125n, N20 LVDS124p, N24 LVDS126n, R20 IO6_0, T20 IO6_1, U20 LVDS136p, U22 IO6_2, V23 LVDS138n, V24 LVDS138p, V25 LVDS137n, W23 LVDS140p, W24 LVDS140n, W25 LVDS139n, Y23 LVDS143p, Y25 LVDS141p
part V pins: AC26 LVDS145p, AE9 LVDS185p, AE10 LVDS183p, AE11 LVDS182n, AE12 LVDS178n, AE13 LVDS177p, AE14 LVDSCLK6n, AE17 LVDS169n, AE19 LVDS165n, AE20 LVDS160n, AE21 LVDS158n, AE22 LVDS155n, AE23 LVDS151n, AE24 LVDS150p, AE25 LVDS150n, AF7 LVDS189n, AF9 LVDS185n, AF10 LVDS183n, AF13 LVDS177n, AF14 LVDSCLK6p, AF17 LVDS169p, AF19 LVDS165p, AF20 LVDS160p, AF21 LVDS158p, AF22 LVDS155p, AF23 LVDS151p, D1 LVDS45n, E1 LVDS43n, P26 CLK7
part W pins: AA26 LVDS142p, AB26 LVDS144n, D26 LVDS105p, E26 LVDS106p, F26 LVDS109n, G26 LVDS112n, H26 LVDS115n, J26 LVDS119n, K26 LVDS121n, N26 CLK5, U26 LVDS134p, V26 LVDS137p, W26 LVDS139p, Y26 LVDS141n
part A text: FPGA
part B text: FPGA
part C text: FPGA
part D text: FPGA
part E text: FPGA
part F text: FPGA
part G text: FPGA
part H text: FPGA
part I text: FPGA
part J text: FPGA
part K text: FPGA
part L text: FPGA
part M text: FPGA
part V text: FPGA
part W text: FPGA

## Quartz
designator ZQ?
ValueType: Кварцевый резонатор; ValueManufacturer: *; ValueManufacturerPartNumber: *; ValueDescription: *
footprint HC-49S
pins: 1, 2

## Resistor
designator R?
ValueManufacturer: Yageo; ValueManufacturerPartNumber: RC0603JR-07680RL; Tolerance: 5%; Temp: -55*C..+155*C; Power: 0,1 Вт; ValueType: Резистор; Value: *; URL: *; Case: 0603; ValueDescription: *
footprint RESC3216X75N
pins: 1, 2

## Resistor_0402_1k
designator R?
ValueManufacturer: Yageo; ValueManufacturerPartNumber: RC0603JR-07680RL; Tolerance: 5%; Temp: -55*C..+155*C; Power: 0,1 Вт; ValueType: Резистор; Value: *; URL: *; Case: 0603; ValueDescription: *
footprint RESC3216X75N
pins: 1, 2

## Resistor_1206_10k
designator R?
ValueManufacturer: Yageo; ValueManufacturerPartNumber: RC0603JR-07680RL; Tolerance: 5%; Temp: -55*C..+155*C; Power: 0,1 Вт; ValueType: Резистор; Value: *; URL: *; Case: 0603; ValueDescription: *
footprint RESC3216X75N
pins: 1, 2

## SMA_CLK
designator XP?, comment EXT_CLK
footprint IPEX
pins: 1, 2
text: Конт.; Цепь; EXT_CLOCK; GND

## SMA_REAL
designator XP?, comment MOLEX 73391
footprint CONN_73391-0070_MOL
pins: 1, 2
text: Конт.; Цепь; GND

## SW
designator SW?, comment POWER SW  (value not drawn)
PowerSW; ValueManufacturer: Te Connectivity; ValueManufacturerPartNumber: 2-1437565-7; ValueType: Кнопка тактовая; Value: *; URL: *; Temp: *; Case: *; ValueDescription: *
footprint SKRHADE010
pins: 1, 2, 3, 4, 5, 6

## TO-160BBC-BF
designator HL?
ValueManufacturer: Foryad; ValueManufacturerPartNumber: fyls-0603urc; Temp: -40...+85; ValueType: Светодиод; Value: Синий; URL: *; Case: 0603; ValueDescription: Светодиод
footprint 15412085A9000
pins: 1, 2

## TRANSFORMER
designator L?, comment ADT2-1T-1P+
footprint ADT1517
pins: 1, 2, 4, 5, 6

## TVS diode
designator VD?, comment SMCJ40A
pins: 1 2, A 2

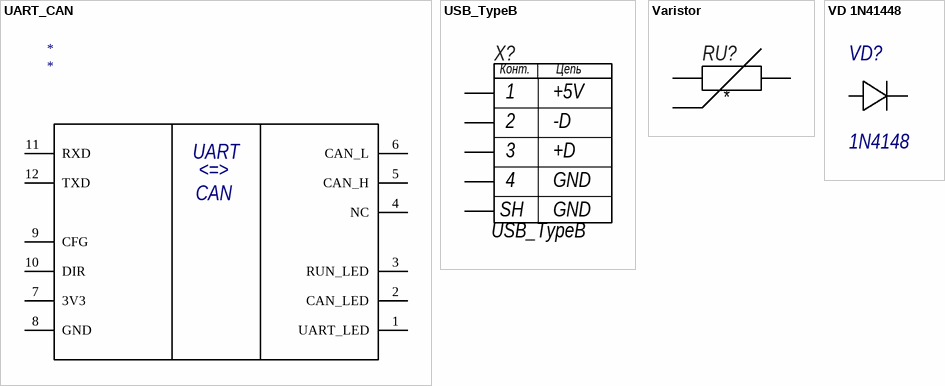
[diagram p8: symbols UART_CAN to VD 1N41448]

## UART_CAN
designator *
footprint UART_CAN
pins: 1 UART_LED, 2 CAN_LED, 3 RUN_LED, 4 NC, 5 CAN_H, 6 CAN_L, 7 3V3, 8 GND, 9 CFG, 10 DIR, 11 RXD, 12 TXD
text: UART; <=>; CAN

## USB_TypeB
designator X?
ValueManufacturer: Te Connectivity; ValueManufacturerPartNumber: 292304-1; ValueType: USB разъем по типу B; Case: PBS-6
footprint ПТМ USB_B
pins: 0, 1, 2, 3, 4
text: Конт.; Цепь; +5V; -D; +D; GND; SH

## Varistor
designator RU?
ValueType: Варистор; URL: *; Temp: *; Case: *; ValueManufacturer: *; ValueManufacturerPartNumber: *; ValueDescription: *
footprint ПТМ 0603_VAR
pins: 1, 2

## VD 1N41448
designator VD?, comment 1N4148
footprint 1N4148WVGS08
pins: 1, 2